# Altium footprint library PcbLib.PcbLib: 285 footprints (part 7 of 18)
Each footprint in its own frame and in the unit in brackets; x right, y up, seen from the top. Pads: shape width x height; smd on the part's side, far side on the other; paste and mask are expansions set on the pad; w line width, h text height; cw(c..) or ccw(c..) is an arc to the next point about the centre after c.
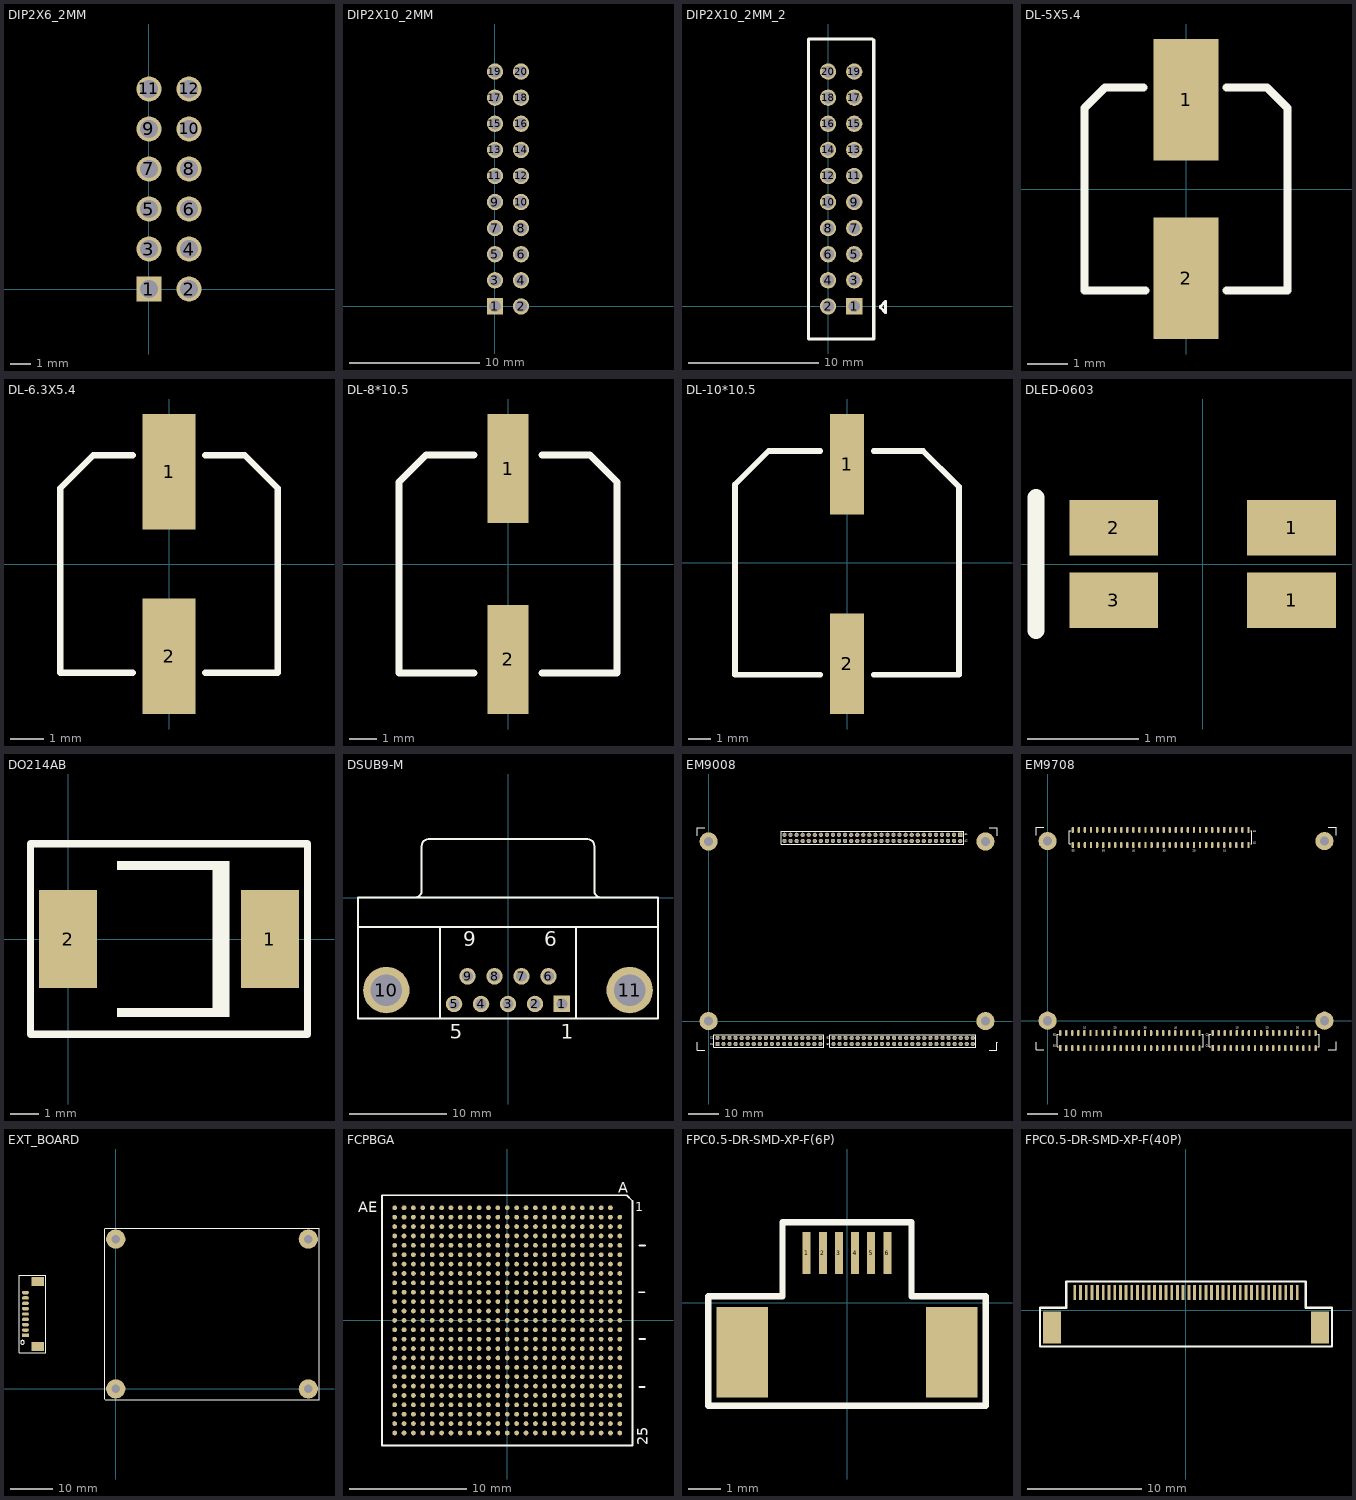
[diagram p6: the footprints below, top view; thin cyan lines are the x and y axes]

## DIP2X6_2MM [mm]
pads (12):
  rect 1.25x1.25 hole 0.889: 1(0,0)
  round 1.25 hole 0.889: 2(2,0) 3(0,2) 4(2,2) 5(0,4) 6(2,4) 7(0,6) 8(2,6) 9(0,8) 10(2,8) 11(0,10) 12(2,10)
Bottom Overlay:
  lines w0.254: -1.5,-2.5 -1.5,12.5 3.4,12.5 3.5,12.4 3.5,-2.5 -1.5,-2.5

## DIP2X10_2MM [mm]
pads (20):
  rect 1.25x1.25 hole 0.889: 1(0,0)
  round 1.25 hole 0.889: 2(2,0) 3(0,2) 4(2,2) 5(0,4) 6(2,4) 7(0,6) 8(2,6) 9(0,8) 10(2,8) 11(0,10) 12(2,10) 13(0,12) 14(2,12) 15(0,14) 16(2,14) 17(0,16) 18(2,16) 19(0,18) 20(2,18)
Bottom Overlay:
  lines w0.254: 3.4,20.5 -1.5,20.5 -1.5,12.5 -1.5,-2.5 3.5,-2.5 3.5,12.4 3.5,20.4 ; 0,-1.6 0,-1.6 ; 0,-1.6 -0.5,-2.1 0.5,-2.1 0,-1.6

## DIP2X10_2MM_2 [mm]
pads (20):
  rect 1.25x1.25 hole 0.889: 1(2,0)
  round 1.25 hole 0.889: 2(0,0) 3(2,2) 4(0,2) 5(2,4) 6(0,4) 7(2,6) 8(0,6) 9(2,8) 10(0,8) 11(2,10) 12(0,10) 13(2,12) 14(0,12) 15(2,14) 16(0,14) 17(2,16) 18(0,16) 19(2,18) 20(0,18)
Top Overlay:
  lines w0.2: 4.4,-0.5 4.4,0.4 ; 4.4,-0.5 4.4,0.4 ; 4.4,-0.5 4,-0.1 4,0 4.4,0.4
  lines w0.254: 3.4,20.5 -1.5,20.5 -1.5,12.5 -1.5,-2.5 3.5,-2.5 3.5,12.4 3.5,20.4

## DL-5X5.4 [mm]
pads (2):
  rect 1.6x3 smd: 1(0,2.2) 2(0,-2.2)
Top Overlay:
  lines w0.2: -1.05,2.5 -2,2.5 -2.5,2 -2.5,-2.5 -1,-2.5 ; 1,-2.5 2.5,-2.5 2.5,2 2,2.5 1,2.5

## DL-6.3X5.4 [mm]
pads (2):
  rect 1.6x3.5 smd: 1(0,2.8) 2(0,-2.8)
Top Overlay:
  lines w0.2: -1.1,-3.3 -3.3,-3.3 -3.3,2.3 -2.3,3.3 -1.1,3.3 ; 1.1,-3.3 3.3,-3.3 3.3,2.3 ; 1.1,3.3 2.3,3.3 3.3,2.3 ; 3.3,2.3 3.3,2.3

## DL-8*10.5 [mm]
pads (2):
  rect 1.5x4 smd: 1(0,3.5) 2(0,-3.5)
Top Overlay:
  lines w0.254: -1.25,-4 -4,-4 -4,3 -3,4 -1.25,4 ; 1.25,-4 4,-4 4,3 3,4 1.25,4

## DL-10*10.5 [mm]
pads (2):
  rect 1.5x4.5 smd: 1(0,4.4) 2(0,-4.5)
Top Overlay:
  lines w0.254: -1.2,-5 -5,-5 -5,3.5 -3.5,5 -1.2,5 ; 1.2,-5 5,-5 5,3.4 4.9,3.5 3.4,5 1.2,5

## DLED-0603 [mm]
pads (4):
  rect 0.8x0.5 smd: 1(0.8,-0.325) 1(0.8,0.325) 2(-0.8,0.325) 3(-0.8,-0.325)
Top Overlay:
  lines w0.15: -1.5,-0.6 -1.5,0.6

## DO214AB [mm]
pads (2):
  rect 2x3.4 smd: 1(7,0) 2(0,0)
Top Overlay:
  rectangle: 1.7,-2.7 5.6,-2.4
  rectangle: 1.7,2.4 5.6,2.7
  rectangle: 5,-2.7 5.6,2.7
  lines w0.254: -1.3,-3.3 8.3,-3.3 8.3,3.3 -1.3,3.3 -1.3,1.4 -1.3,-3.3

## DSUB9-M [mm] "Connector; D Subminiature; 9 Position; Right Angle; Pitch 1.385 mm"
height 12.75
pads (11):
  rect 1.69x1.69 hole 1.09: 1(5.54,-10.92)
  round 1.69 hole 1.09: 2(2.77,-10.92) 3(0,-10.92) 4(-2.77,-10.92) 5(-5.54,-10.92) 6(4.155,-8.08) 7(1.385,-8.08) 8(-1.385,-8.08) 9(-4.155,-8.08)
  round 4.76 hole 3.26: 10(-12.495,-9.5) 11(12.495,-9.5)
Top Overlay:
  lines w0.2: -15.4,-3 15.4,-3 ; -9.56,0.005 ccw(c-9.56,0.7) -8.865,0.7 -8.865,5.3 ; -8.86,5.305 cw(c-8.165,5.305) -8.165,6 8.165,6 cw(c8.165,5.305) 8.86,5.305 ; -7,-12.4 -7,-3 ; 7,-12.4 7,-3 ; 8.865,5.3 8.865,0.7 ccw(c9.56,0.7) 9.56,0.005 ; -15.4,-12.4 15.4,-12.4 15.4,0 -15.4,0 -15.4,-12.4
  text "6" at 3.7,-5 h1.5
  text "9" at -4.6,-5 h1.5
  text "5" at -6,-14.5 h1.5
  text "1" at 5.4,-14.5 h1.5

## EM9008 [mm]
pads (148):
  rect 1.4x1.4 hole 0.9: A1(83.09,61.514) C1(2.939,-7.538)
  round 1.4 hole 0.9: A2(83.09,59.514) A3(81.09,61.514) A4(81.09,59.514) A5(79.09,61.514) A6(79.09,59.514) A7(77.09,61.514) A8(77.09,59.514) A9(75.09,61.514) A10(75.09,59.514) A11(73.09,61.514) A12(73.09,59.514) A13(71.09,61.514) A14(71.09,59.514) A15(69.09,61.514) A16(69.09,59.514) A17(67.09,61.514) A18(67.09,59.514) A19(65.09,61.514) A20(65.09,59.514) A21(63.09,61.514) A22(63.09,59.514) A23(61.09,61.514) A24(61.09,59.514) A25(59.09,61.514) A26(59.09,59.514) A27(57.09,61.514) A28(57.09,59.514) A29(55.09,61.514) A30(55.09,59.514) A31(53.09,61.514) A32(53.09,59.514) A33(51.09,61.514) A34(51.09,59.514) A35(49.09,61.514) A36(49.09,59.514) A37(47.09,61.514) A38(47.09,59.514) A39(45.09,61.514) A40(45.09,59.514) A41(43.09,61.514) A42(43.09,59.514) A43(41.09,61.514) A44(41.09,59.514) A45(39.09,61.514) A46(39.09,59.514) A47(37.09,61.514) A48(37.09,59.514) A49(35.09,61.514) A50(35.09,59.514) A51(33.09,61.514) A52(33.09,59.514) A53(31.09,61.514) A54(31.09,59.514) A55(29.09,61.514) A56(29.09,59.514) A57(27.09,61.514) A58(27.09,59.514) A59(25.09,61.514) A60(25.09,59.514) B1(41.262,-7.538) B2(41.262,-5.538) B3(43.262,-7.538) B4(43.262,-5.538) B5(45.262,-7.538) B6(45.262,-5.538) B7(47.262,-7.538) B8(47.262,-5.538) B9(49.262,-7.538) B10(49.262,-5.538) B11(51.262,-7.538) B12(51.262,-5.538) B13(53.262,-7.538) B14(53.262,-5.538) B15(55.262,-7.538) B16(55.262,-5.538) B17(57.262,-7.538) B18(57.262,-5.538) B19(59.262,-7.538) B20(59.262,-5.538) B21(61.262,-7.538) B22(61.262,-5.538) B23(63.262,-7.538) B24(63.262,-5.538) B25(65.262,-7.538) B26(65.262,-5.538) B27(67.262,-7.538) B28(67.262,-5.538) B29(69.262,-7.538) B30(69.262,-5.538) B31(71.262,-7.538) B32(71.262,-5.538) B33(73.262,-7.538) B34(73.262,-5.538) B35(75.262,-7.538) B36(75.262,-5.538) B37(77.262,-7.538) B38(77.262,-5.538) B39(79.262,-7.538) B40(79.262,-5.538) B41(81.262,-7.538) B42(81.262,-5.538) B43(83.262,-7.538) B44(83.262,-5.538) B45(85.262,-7.538) B46(85.262,-5.538) B47(87.262,-7.538) B48(87.262,-5.538) C2(2.939,-5.538) C3(4.939,-7.538) C4(4.939,-5.538) C5(6.939,-7.538) C6(6.939,-5.538) C7(8.939,-7.538) C8(8.939,-5.538) C9(10.939,-7.538) C10(10.939,-5.538) C11(12.939,-7.538) C12(12.939,-5.538) C13(14.939,-7.538) C14(14.939,-5.538) C15(16.939,-7.538) C16(16.939,-5.538) C17(18.939,-7.538) C18(18.939,-5.538) C19(20.939,-7.538) C20(20.939,-5.538) C21(22.939,-7.538) C22(22.939,-5.538) C23(24.939,-7.538) C24(24.939,-5.538) C25(26.939,-7.538) C26(26.939,-5.538) C27(28.939,-7.538) C28(28.939,-5.538) C29(30.939,-7.538) C30(30.939,-5.538) C31(32.939,-7.538) C32(32.939,-5.538) C33(34.939,-7.538) C34(34.939,-5.538) C35(36.939,-7.538) C36(36.939,-5.538)
  round 6 hole 3: ""(0,0) ""(0,59.309) ""(91.44,0) ""(91.44,59.309)
Top Overlay:
  lines w0.2: 1.69,-8.586 38.09,-8.586 38.09,-4.486 1.69,-4.486 1.69,-8.586 ; 23.99,58.414 23.99,62.714 84.19,62.714 84.19,58.414 23.99,58.414 ; 40.09,-8.586 88.29,-8.586 88.29,-4.486 40.09,-4.486 40.09,-8.586
  lines w0.254: -3.81,-7.086 -3.81,-9.586 ; -3.81,-6.919 -3.81,-9.586 ; -3.81,61.28 -3.81,63.82 ; -1.31,-9.586 -3.81,-9.586 ; -1.27,-9.586 -3.81,-9.586 ; 92.69,63.814 92.696,63.82 95.25,63.82 ; 92.71,-9.586 95.25,-9.586 ; 92.71,63.82 95.25,63.82 ; 93.69,-9.586 95.25,-9.586 ; 95.25,61.28 95.25,63.82 ; 95.25,61.474 95.25,63.82 ; -3.81,63.82 -1.27,63.82 ; -3.81,63.82 -1.27,63.82 ; -1.27,63.82 -1.27,63.82 ; 95.25,-9.586 95.25,-7.046 ; 95.25,-9.586 95.25,-7.046 ; 95.25,-7.046 95.25,-7.046
  text "A1" at 84.59,61.314 h0.5
  text "A2" at 84.59,59.214 h0.5
  text "C1" at 0.59,-7.886 h0.5
  text "C2" at 0.59,-5.786 h0.5
  text "B1" at 38.99,-7.886 h0.5
  text "B2" at 38.99,-5.786 h0.5
Mechanical 3:
  lines w0.127: -3.81,63.82 -3.81,63.82 ; 92.71,63.82 92.71,63.82 ; 95.25,-7.046 95.25,-7.046

## EM9708 [mm]
pads (148):
  rect 0.8x2 smd: A1(66.35,63.014) B1(4.178,-9.038) C1(54.501,-9.038)
  oval 0.8x2 smd: A2(66.35,58.014) A3(64.35,63.014) A4(64.35,58.014) A5(62.35,63.014) A6(62.35,58.014) A7(60.35,63.014) A8(60.35,58.014) A9(58.35,63.014) A10(58.35,58.014) A11(56.35,63.014) A12(56.35,58.014) A13(54.35,63.014) A14(54.35,58.014) A15(52.35,63.014) A16(52.35,58.014) A17(50.35,63.014) A18(50.35,58.014) A19(48.35,63.014) A20(48.35,58.014) A21(46.35,63.014) A22(46.35,58.014) A23(44.35,63.014) A24(44.35,58.014) A25(42.35,63.014) A26(42.35,58.014) A27(40.35,63.014) A28(40.35,58.014) A29(38.35,63.014) A30(38.35,58.014) A31(36.35,63.014) A32(36.35,58.014) A33(34.35,63.014) A34(34.35,58.014) A35(32.35,63.014) A36(32.35,58.014) A37(30.35,63.014) A38(30.35,58.014) A39(28.35,63.014) A40(28.35,58.014) A41(26.35,63.014) A42(26.35,58.014) A43(24.35,63.014) A44(24.35,58.014) A45(22.35,63.014) A46(22.35,58.014) A47(20.35,63.014) A48(20.35,58.014) A49(18.35,63.014) A50(18.35,58.014) A51(16.35,63.014) A52(16.35,58.014) A53(14.35,63.014) A54(14.35,58.014) A55(12.35,63.014) A56(12.35,58.014) A57(10.35,63.014) A58(10.35,58.014) A59(8.35,63.014) A60(8.35,58.014) B2(4.178,-4.038) B3(6.178,-9.038) B4(6.178,-4.038) B5(8.178,-9.038) B6(8.178,-4.038) B7(10.178,-9.038) B8(10.178,-4.038) B9(12.178,-9.038) B10(12.178,-4.038) B11(14.178,-9.038) B12(14.178,-4.038) B13(16.178,-9.038) B14(16.178,-4.038) B15(18.178,-9.038) B16(18.178,-4.038) B17(20.178,-9.038) B18(20.178,-4.038) B19(22.178,-9.038) B20(22.178,-4.038) B21(24.178,-9.038) B22(24.178,-4.038) B23(26.178,-9.038) B24(26.178,-4.038) B25(28.178,-9.038) B26(28.178,-4.038) B27(30.178,-9.038) B28(30.178,-4.038) B29(32.178,-9.038) B30(32.178,-4.038) B31(34.178,-9.038) B32(34.178,-4.038) B33(36.178,-9.038) B34(36.178,-4.038) B35(38.178,-9.038) B36(38.178,-4.038) B37(40.178,-9.038) B38(40.178,-4.038) B39(42.178,-9.038) B40(42.178,-4.038) B41(44.178,-9.038) B42(44.178,-4.038) B43(46.178,-9.038) B44(46.178,-4.038) B45(48.178,-9.038) B46(48.178,-4.038) B47(50.178,-9.038) B48(50.178,-4.038) C2(54.501,-4.038) C3(56.501,-9.038) C4(56.501,-4.038) C5(58.501,-9.038) C6(58.501,-4.038) C7(60.501,-9.038) C8(60.501,-4.038) C9(62.501,-9.038) C10(62.501,-4.038) C11(64.501,-9.038) C12(64.501,-4.038) C13(66.501,-9.038) C14(66.501,-4.038) C15(68.501,-9.038) C16(68.501,-4.038) C17(70.501,-9.038) C18(70.501,-4.038) C19(72.501,-9.038) C20(72.501,-4.038) C21(74.501,-9.038) C22(74.501,-4.038) C23(76.501,-9.038) C24(76.501,-4.038) C25(78.501,-9.038) C26(78.501,-4.038) C27(80.501,-9.038) C28(80.501,-4.038) C29(82.501,-9.038) C30(82.501,-4.038) C31(84.501,-9.038) C32(84.501,-4.038) C33(86.501,-9.038) C34(86.501,-4.038) C35(88.501,-9.038) C36(88.501,-4.038)
  round 6 hole 3: ""(0,0) ""(0,59.309) ""(91.44,0) ""(91.44,59.309)
Top Overlay:
  lines w0.2: 3.549,-8.586 3.15,-8.586 3.15,-4.486 3.553,-4.486 ; 7.649,58.414 7.25,58.414 7.25,62.714 7.653,62.714 ; 50.849,-4.486 51.35,-4.486 51.35,-8.586 50.853,-8.586 ; 53.853,-8.586 53.35,-8.586 53.35,-4.486 53.853,-4.486 ; 67.049,58.414 67.45,58.414 67.45,62.714 67.049,62.714 ; 89.153,-8.586 89.75,-8.586 89.75,-4.486 89.153,-4.486
  lines w0.254: -3.81,61.28 -3.81,63.82 ; -3.81,61.474 -3.81,63.82 ; -2.25,-9.586 -3.81,-9.586 ; -1.27,-9.586 -3.81,-9.586 ; -1.27,63.82 -3.81,63.82 ; -1.25,63.814 -1.256,63.82 -3.81,63.82 ; 92.71,-9.586 95.25,-9.586 ; 92.75,-9.586 95.25,-9.586 ; 95.25,-7.086 95.25,-9.586 ; 95.25,-6.919 95.25,-9.586 ; 95.25,61.28 95.25,63.82 ; -3.81,-9.586 -3.81,-7.046 ; -3.81,-9.586 -3.81,-7.046 ; -3.81,-7.046 -3.81,-7.046 ; 92.71,63.82 92.71,63.82 ; 92.71,63.82 95.25,63.82 ; 92.71,63.82 95.25,63.82
  text "40" at 41.801,-2.638 h0.5
  text "30" at 31.801,-2.638 h0.5
  text "20" at 21.801,-2.638 h0.5
  text "10" at 11.801,-2.638 h0.5
  text "60" at 8.001,55.862 h0.5
  text "50" at 18.001,55.862 h0.5
  text "40" at 28.001,55.862 h0.5
  text "30" at 38.001,55.862 h0.5
  text "20" at 48.001,55.862 h0.5
  text "10" at 58.001,55.862 h0.5
  text "A1" at 67.901,62.162 h0.5
  text "A2" at 67.901,58.462 h0.5
  text "C1" at 52.201,-8.538 h0.5
  text "C2" at 52.201,-5.038 h0.5
  text "B1" at 1.901,-8.538 h0.5
  text "B2" at 1.901,-5.038 h0.5
  text "10" at 62.101,-2.638 h0.5
  text "20" at 72.101,-2.638 h0.5
  text "30" at 82.101,-2.638 h0.5
Mechanical 3:
  lines w0.127: -3.81,-7.046 -3.81,-7.046 ; -1.27,63.82 -1.27,63.82 ; 95.25,63.82 95.25,63.82

## EXT_BOARD [mm]
pads (15):
  rect 1.6x0.8 smd: 1(-21.1,12.5)
  oval 1.6x0.8 smd: 2(-21.1,13.75) 3(-21.1,15) 4(-21.1,16.25) 5(-21.1,17.5) 6(-21.1,18.75) 7(-21.1,20) 8(-21.1,21.25) 9(-21.1,22.5)
  rect 3x2.1 smd: ""(-18.2,9.95) ""(-18.2,25.1)
  round 4.5 hole 2: ""(0,0) ""(0,35) ""(45,0) ""(45,35)
Top Overlay:
  circle w0.254: c-21.79,10.876 r0.446
  lines w0.254: -2.6,-2.4 -2.6,8.5 -2.6,37.4 ; -2.5,-2.5 47.5,-2.5 47.5,37.5 -2.5,37.5 ; -22.6,8.5 -21.1,8.5 -16.3,8.5 -16.3,26.6 -22.6,26.6 -22.6,8.5

## FCPBGA [mil]
pads (624):
  round 16 smd: A2(377.95,346.46) A3(377.95,314.96) A4(377.95,283.46) A5(377.95,251.97) A6(377.95,220.47) A7(377.95,188.98) A8(377.95,157.48) A9(377.95,125.98) A10(377.95,94.49) A11(377.95,62.99) A12(377.95,31.5) A13(377.95,0) A14(377.95,-31.5) A15(377.95,-62.99) A16(377.95,-94.49) A17(377.95,-125.98) A18(377.95,-157.48) A19(377.95,-188.98) A20(377.95,-220.47) A21(377.95,-251.97) A22(377.95,-283.46) A23(377.95,-314.96) A24(377.95,-346.46) A25(377.95,-377.95) AA1(-251.97,377.95) AA2(-251.97,346.46) AA3(-251.97,314.96) AA4(-251.97,283.46) AA5(-251.97,251.97) AA6(-251.97,220.47) AA7(-251.97,188.98) AA8(-251.97,157.48) AA9(-251.97,125.98) AA10(-251.97,94.49) AA11(-251.97,62.99) AA12(-251.97,31.5) AA13(-251.97,0) AA14(-251.97,-31.5) AA15(-251.97,-62.99) AA16(-251.97,-94.49) AA17(-251.97,-125.98) AA18(-251.97,-157.48) AA19(-251.97,-188.98) AA20(-251.97,-220.47) AA21(-251.97,-251.97) AA22(-251.97,-283.46) AA23(-251.97,-314.96) AA24(-251.97,-346.46) AA25(-251.97,-377.95) AB1(-283.46,377.95) AB2(-283.46,346.46) AB3(-283.46,314.96) AB4(-283.46,283.46) AB5(-283.46,251.97) AB6(-283.46,220.47) AB7(-283.46,188.98) AB8(-283.46,157.48) AB9(-283.46,125.98) AB10(-283.46,94.49) AB11(-283.46,62.99) AB12(-283.46,31.5) AB13(-283.46,0) AB14(-283.46,-31.5) AB15(-283.46,-62.99) AB16(-283.46,-94.49) AB17(-283.46,-125.98) AB18(-283.46,-157.48) AB19(-283.46,-188.98) AB20(-283.46,-220.47) AB21(-283.46,-251.97) AB22(-283.46,-283.46) AB23(-283.46,-314.96) AB24(-283.46,-346.46) AB25(-283.46,-377.95) AC1(-314.96,377.95) AC2(-314.96,346.46) AC3(-314.96,314.96) AC4(-314.96,283.46) AC5(-314.96,251.97) AC6(-314.96,220.47) AC7(-314.96,188.98) AC8(-314.96,157.48) AC9(-314.96,125.98) AC10(-314.96,94.49) AC11(-314.96,62.99) AC12(-314.96,31.5) AC13(-314.96,0) AC14(-314.96,-31.5) AC15(-314.96,-62.99) AC16(-314.96,-94.49) AC17(-314.96,-125.98) AC18(-314.96,-157.48) AC19(-314.96,-188.98) AC20(-314.96,-220.47) AC21(-314.96,-251.97) AC22(-314.96,-283.46) AC23(-314.96,-314.96) AC24(-314.96,-346.46) AC25(-314.96,-377.95) AD1(-346.46,377.95) AD2(-346.46,346.46) AD3(-346.46,314.96) AD4(-346.46,283.46) AD5(-346.46,251.97) AD6(-346.46,220.47) AD7(-346.46,188.98) AD8(-346.46,157.48) AD9(-346.46,125.98) AD10(-346.46,94.49) AD11(-346.46,62.99) AD12(-346.46,31.5) AD13(-346.46,0) AD14(-346.46,-31.5) AD15(-346.46,-62.99) AD16(-346.46,-94.49) AD17(-346.46,-125.98) AD18(-346.46,-157.48) AD19(-346.46,-188.98) AD20(-346.46,-220.47) AD21(-346.46,-251.97) AD22(-346.46,-283.46) AD23(-346.46,-314.96) AD24(-346.46,-346.46) AD25(-346.46,-377.95) AE1(-377.95,377.95) AE2(-377.95,346.46) AE3(-377.95,314.96) AE4(-377.95,283.46) AE5(-377.95,251.97) AE6(-377.95,220.47) AE7(-377.95,188.98) AE8(-377.95,157.48) AE9(-377.95,125.98) AE10(-377.95,94.49) AE11(-377.95,62.99) AE12(-377.95,31.5) AE13(-377.95,0) AE14(-377.95,-31.5) AE15(-377.95,-62.99) AE16(-377.95,-94.49) AE17(-377.95,-125.98) AE18(-377.95,-157.48) AE19(-377.95,-188.98) AE20(-377.95,-220.47) AE21(-377.95,-251.97) AE22(-377.95,-283.46) AE23(-377.95,-314.96) AE24(-377.95,-346.46) AE25(-377.95,-377.95) B1(346.46,377.95) B2(346.46,346.46) B3(346.46,314.96) B4(346.46,283.46) B5(346.46,251.97) B6(346.46,220.47) B7(346.46,188.98) B8(346.46,157.48) B9(346.46,125.98) B10(346.46,94.49) B11(346.46,62.99) B12(346.46,31.5) B13(346.46,0) B14(346.46,-31.5) B15(346.46,-62.99) B16(346.46,-94.49) B17(346.46,-125.98) B18(346.46,-157.48) B19(346.46,-188.98) B20(346.46,-220.47) B21(346.46,-251.97) B22(346.46,-283.46) B23(346.46,-314.96) B24(346.46,-346.46) B25(346.46,-377.95) C1(314.96,377.95) C2(314.96,346.46) C3(314.96,314.96) C4(314.96,283.46) C5(314.96,251.97) C6(314.96,220.47) C7(314.96,188.98) C8(314.96,157.48) C9(314.96,125.98) C10(314.96,94.49) C11(314.96,62.99) C12(314.96,31.5) C13(314.96,0) C14(314.96,-31.5) C15(314.96,-62.99) C16(314.96,-94.49) C17(314.96,-125.98) C18(314.96,-157.48) C19(314.96,-188.98) C20(314.96,-220.47) C21(314.96,-251.97) C22(314.96,-283.46) C23(314.96,-314.96) C24(314.96,-346.46) C25(314.96,-377.95) D1(283.46,377.95) D2(283.46,346.46) D3(283.46,314.96) D4(283.46,283.46) D5(283.46,251.97) D6(283.46,220.47) D7(283.46,188.98) D8(283.46,157.48) D9(283.46,125.98) D10(283.46,94.49) D11(283.46,62.99) D12(283.46,31.5) D13(283.46,0) D14(283.46,-31.5) D15(283.46,-62.99) D16(283.46,-94.49) D17(283.46,-125.98) D18(283.46,-157.48) D19(283.46,-188.98) D20(283.46,-220.47) D21(283.46,-251.97) D22(283.46,-283.46) D23(283.46,-314.96) D24(283.46,-346.46) D25(283.46,-377.95) E1(251.97,377.95) E2(251.97,346.46) E3(251.97,314.96) E4(251.97,283.46) E5(251.97,251.97) E6(251.97,220.47) E7(251.97,188.98) E8(251.97,157.48) E9(251.97,125.98) E10(251.97,94.49) E11(251.97,62.99) E12(251.97,31.5) E13(251.97,0) E14(251.97,-31.5) E15(251.97,-62.99) E16(251.97,-94.49) E17(251.97,-125.98) E18(251.97,-157.48) E19(251.97,-188.98) E20(251.97,-220.47) E21(251.97,-251.97) E22(251.97,-283.46) E23(251.97,-314.96) E24(251.97,-346.46) E25(251.97,-377.95) F1(220.47,377.95) F2(220.47,346.46) F3(220.47,314.96) F4(220.47,283.46) F5(220.47,251.97) F6(220.47,220.47) F7(220.47,188.98) F8(220.47,157.48) F9(220.47,125.98) F10(220.47,94.49) F11(220.47,62.99) F12(220.47,31.5) F13(220.47,0) F14(220.47,-31.5) F15(220.47,-62.99) F16(220.47,-94.49) F17(220.47,-125.98) F18(220.47,-157.48) F19(220.47,-188.98) F20(220.47,-220.47) F21(220.47,-251.97) F22(220.47,-283.46) F23(220.47,-314.96) F24(220.47,-346.46) F25(220.47,-377.95) G1(188.98,377.95) G2(188.98,346.46) G3(188.98,314.96) G4(188.98,283.46) G5(188.98,251.97) G6(188.98,220.47) G7(188.98,188.98) G8(188.98,157.48) G9(188.98,125.98) G10(188.98,94.49) G11(188.98,62.99) G12(188.98,31.5) G13(188.98,0) G14(188.98,-31.5) G15(188.98,-62.99) G16(188.98,-94.49) G17(188.98,-125.98) G18(188.98,-157.48) G19(188.98,-188.98) G20(188.98,-220.47) G21(188.98,-251.97) G22(188.98,-283.46) G23(188.98,-314.96) G24(188.98,-346.46) G25(188.98,-377.95) H1(157.48,377.95) H2(157.48,346.46) H3(157.48,314.96) H4(157.48,283.46) H5(157.48,251.97) H6(157.48,220.47) H7(157.48,188.98) H8(157.48,157.48) H9(157.48,125.98) H10(157.48,94.49) H11(157.48,62.99) H12(157.48,31.5) H13(157.48,0) H14(157.48,-31.5) H15(157.48,-62.99) H16(157.48,-94.49) H17(157.48,-125.98) H18(157.48,-157.48) H19(157.48,-188.98) H20(157.48,-220.47) H21(157.48,-251.97) H22(157.48,-283.46) H23(157.48,-314.96) H24(157.48,-346.46) H25(157.48,-377.95) J1(125.98,377.95) J2(125.98,346.46) J3(125.98,314.96) J4(125.98,283.46) J5(125.98,251.97) J6(125.98,220.47) J7(125.98,188.98) J8(125.98,157.48) J9(125.98,125.98) J10(125.98,94.49) J11(125.98,62.99) J12(125.98,31.5) J13(125.98,0) J14(125.98,-31.5) J15(125.98,-62.99) J16(125.98,-94.49) J17(125.98,-125.98) J18(125.98,-157.48) J19(125.98,-188.98) J20(125.98,-220.47) J21(125.98,-251.97) J22(125.98,-283.46) J23(125.98,-314.96) J24(125.98,-346.46) J25(125.98,-377.95) K1(94.49,377.95) K2(94.49,346.46) K3(94.49,314.96) K4(94.49,283.46) K5(94.49,251.97) K6(94.49,220.47) K7(94.49,188.98) K8(94.49,157.48) K9(94.49,125.98) K10(94.49,94.49) K11(94.49,62.99) K12(94.49,31.5) K13(94.49,0) K14(94.49,-31.5) K15(94.49,-62.99) K16(94.49,-94.49) K17(94.49,-125.98) K18(94.49,-157.48) K19(94.49,-188.98) K20(94.49,-220.47) K21(94.49,-251.97) K22(94.49,-283.46) K23(94.49,-314.96) K24(94.49,-346.46) K25(94.49,-377.95) L1(62.99,377.95) L2(62.99,346.46) L3(62.99,314.96) L4(62.99,283.46) L5(62.99,251.97) L6(62.99,220.47) L7(62.99,188.98) L8(62.99,157.48) L9(62.99,125.98) L10(62.99,94.49) L11(62.99,62.99) L12(62.99,31.5) L13(62.99,0) L14(62.99,-31.5) L15(62.99,-62.99) L16(62.99,-94.49) L17(62.99,-125.98) L18(62.99,-157.48) L19(62.99,-188.98) L20(62.99,-220.47) L21(62.99,-251.97) L22(62.99,-283.46) L23(62.99,-314.96) L24(62.99,-346.46) L25(62.99,-377.95) M1(31.5,377.95) M2(31.5,346.46) M3(31.5,314.96) M4(31.5,283.46) M5(31.5,251.97) M6(31.5,220.47) M7(31.5,188.98) M8(31.5,157.48) M9(31.5,125.98) M10(31.5,94.49) M11(31.5,62.99) M12(31.5,31.5) M13(31.5,0) M14(31.5,-31.5) M15(31.5,-62.99) M16(31.5,-94.49) M17(31.5,-125.98) M18(31.5,-157.48) M19(31.5,-188.98) M20(31.5,-220.47) M21(31.5,-251.97) M22(31.5,-283.46) M23(31.5,-314.96) M24(31.5,-346.46) M25(31.5,-377.95) N1(0,377.95) N2(0,346.46) N3(0,314.96) N4(0,283.46) N5(0,251.97) N6(0,220.47) N7(0,188.98) N8(0,157.48) N9(0,125.98) N10(0,94.49) N11(0,62.99) N12(0,31.5) N13(0,0) N14(0,-31.5) N15(0,-62.99) N16(0,-94.49) N17(0,-125.98) N18(0,-157.48) N19(0,-188.98) N20(0,-220.47) N21(0,-251.97) N22(0,-283.46) N23(0,-314.96) N24(0,-346.46) N25(0,-377.95) P1(-31.5,377.95) P2(-31.5,346.46) P3(-31.5,314.96) P4(-31.5,283.46) P5(-31.5,251.97) P6(-31.5,220.47) P7(-31.5,188.98) P8(-31.5,157.48) P9(-31.5,125.98) P10(-31.5,94.49) P11(-31.5,62.99) P12(-31.5,31.5) P13(-31.5,0) P14(-31.5,-31.5) P15(-31.5,-62.99) P16(-31.5,-94.49) P17(-31.5,-125.98) P18(-31.5,-157.48) P19(-31.5,-188.98) P20(-31.5,-220.47) P21(-31.5,-251.97) P22(-31.5,-283.46) P23(-31.5,-314.96) P24(-31.5,-346.46) P25(-31.5,-377.95) R1(-62.99,377.95) R2(-62.99,346.46) R3(-62.99,314.96) R4(-62.99,283.46) R5(-62.99,251.97) R6(-62.99,220.47) R7(-62.99,188.98) R8(-62.99,157.48) R9(-62.99,125.98) R10(-62.99,94.49) R11(-62.99,62.99) R12(-62.99,31.5) R13(-62.99,0) R14(-62.99,-31.5) R15(-62.99,-62.99) R16(-62.99,-94.49) R17(-62.99,-125.98) R18(-62.99,-157.48) R19(-62.99,-188.98) R20(-62.99,-220.47) R21(-62.99,-251.97) R22(-62.99,-283.46) R23(-62.99,-314.96) R24(-62.99,-346.46) R25(-62.99,-377.95) T1(-94.49,377.95) T2(-94.49,346.46) T3(-94.49,314.96) T4(-94.49,283.46) T5(-94.49,251.97) T6(-94.49,220.47) T7(-94.49,188.98) T8(-94.49,157.48) T9(-94.49,125.98) T10(-94.49,94.49) T11(-94.49,62.99) T12(-94.49,31.5) T13(-94.49,0) T14(-94.49,-31.5) T15(-94.49,-62.99) T16(-94.49,-94.49) T17(-94.49,-125.98) T18(-94.49,-157.48) T19(-94.49,-188.98) T20(-94.49,-220.47) T21(-94.49,-251.97) T22(-94.49,-283.46) T23(-94.49,-314.96) T24(-94.49,-346.46) T25(-94.49,-377.95) U1(-125.98,377.95) U2(-125.98,346.46) U3(-125.98,314.96) U4(-125.98,283.46) U5(-125.98,251.97) U6(-125.98,220.47) U7(-125.98,188.98) U8(-125.98,157.48) U9(-125.98,125.98) U10(-125.98,94.49) U11(-125.98,62.99) U12(-125.98,31.5) U13(-125.98,0) U14(-125.98,-31.5) U15(-125.98,-62.99) U16(-125.98,-94.49) U17(-125.98,-125.98) U18(-125.98,-157.48) U19(-125.98,-188.98) U20(-125.98,-220.47) U21(-125.98,-251.97) U22(-125.98,-283.46) U23(-125.98,-314.96) U24(-125.98,-346.46) U25(-125.98,-377.95) V1(-157.48,377.95) V2(-157.48,346.46) V3(-157.48,314.96) V4(-157.48,283.46) V5(-157.48,251.97) V6(-157.48,220.47) V7(-157.48,188.98) V8(-157.48,157.48) V9(-157.48,125.98) V10(-157.48,94.49) V11(-157.48,62.99) V12(-157.48,31.5) V13(-157.48,0) V14(-157.48,-31.5) V15(-157.48,-62.99) V16(-157.48,-94.49) V17(-157.48,-125.98) V18(-157.48,-157.48) V19(-157.48,-188.98) V20(-157.48,-220.47) V21(-157.48,-251.97) V22(-157.48,-283.46) V23(-157.48,-314.96) V24(-157.48,-346.46) V25(-157.48,-377.95) W1(-188.98,377.95) W2(-188.98,346.46) W3(-188.98,314.96) W4(-188.98,283.46) W5(-188.98,251.97) W6(-188.98,220.47) W7(-188.98,188.98) W8(-188.98,157.48) W9(-188.98,125.98) W10(-188.98,94.49) W11(-188.98,62.99) W12(-188.98,31.5) W13(-188.98,0) W14(-188.98,-31.5) W15(-188.98,-62.99) W16(-188.98,-94.49) W17(-188.98,-125.98) W18(-188.98,-157.48) W19(-188.98,-188.98) W20(-188.98,-220.47) W21(-188.98,-251.97) W22(-188.98,-283.46) W23(-188.98,-314.96) W24(-188.98,-346.46) W25(-188.98,-377.95) Y1(-220.47,377.95) Y2(-220.47,346.46) Y3(-220.47,314.96) Y4(-220.47,283.46) Y5(-220.47,251.97) Y6(-220.47,220.47) Y7(-220.47,188.98) Y8(-220.47,157.48) Y9(-220.47,125.98) Y10(-220.47,94.49) Y11(-220.47,62.99) Y12(-220.47,31.5) Y13(-220.47,0) Y14(-220.47,-31.5) Y15(-220.47,-62.99) Y16(-220.47,-94.49) Y17(-220.47,-125.98) Y18(-220.47,-157.48) Y19(-220.47,-188.98) Y20(-220.47,-220.47) Y21(-220.47,-251.97) Y22(-220.47,-283.46) Y23(-220.47,-314.96) Y24(-220.47,-346.46) Y25(-220.47,-377.95)
Top Overlay:
  lines w6: 442.01,94.41 461.1,94.41 ; 442.76,-223.82 461.85,-223.82 ; 443.23,-61.97 462.32,-61.97 ; 444.33,251.34 463.43,251.34 ; -420.39,-420.39 420.39,-420.39 420.39,400.7 400.7,420.39 -420.39,420.39 -420.39,-420.39
  text "25" at 471.05,-418.95 h35
  text "1" at 429,366 h31
  text "A" at 372.5,428.33 h35
  text "AE" at -501,363.33 h35

## FPC0.5-DR-SMD-XP-F(6P) [mm]
pads (8):
  rect 0.25x1.3 smd: 1(-1.25,1.54) 2(-0.75,1.54) 3(-0.25,1.54) 4(0.25,1.54) 5(0.75,1.54) 6(1.25,1.54)
  rect 1.6x2.8 smd: ""(-3.25,-1.54) ""(3.25,-1.54)
Top Overlay:
  lines w0.2: -4.3,-3.2 4.3,-3.2 4.3,0.2 2,0.2 2,2.5 1.6,2.5 0.6,2.5 -2,2.5 -2,0.2 -4.3,0.2 -4.3,-3.2

## FPC0.5-DR-SMD-XP-F(40P) [mm]
pads (42):
  rect 0.25x1.3 smd: 1(9.75,1.54) 2(9.25,1.54) 3(8.75,1.54) 4(8.25,1.54) 5(7.75,1.54) 6(7.25,1.54) 7(6.75,1.54) 8(6.25,1.54) 9(5.75,1.54) 10(5.25,1.54) 11(4.75,1.54) 12(4.25,1.54) 13(3.75,1.54) 14(3.25,1.54) 15(2.75,1.54) 16(2.25,1.54) 17(1.75,1.54) 18(1.25,1.54) 19(0.75,1.54) 20(0.25,1.54) 21(-0.25,1.54) 22(-0.75,1.54) 23(-1.25,1.54) 24(-1.75,1.54) 25(-2.25,1.54) 26(-2.75,1.54) 27(-3.25,1.54) 28(-3.75,1.54) 29(-4.25,1.54) 30(-4.75,1.54) 31(-5.25,1.54) 32(-5.75,1.54) 33(-6.25,1.54) 34(-6.75,1.54) 35(-7.25,1.54) 36(-7.75,1.54) 37(-8.25,1.54) 38(-8.75,1.54) 39(-9.25,1.54) 40(-9.75,1.54)
  rect 1.6x2.8 smd: ""(-11.75,-1.54) ""(11.75,-1.54)
Top Overlay:
  lines w0.2: -12.8,-3.2 -12.8,0.2 -10.5,0.2 -10.5,2.5 -7.9,2.5 -6.9,2.5 -6.5,2.5 10.5,2.5 10.5,0.2 12.8,0.2 12.8,-3.2 -4.2,-3.2 -12.8,-3.2